# Altium schematic symbol library Molex_Library.SchLib: 6 symbols
Pins are listed as number, name and electrical type; pins without a type are passive.

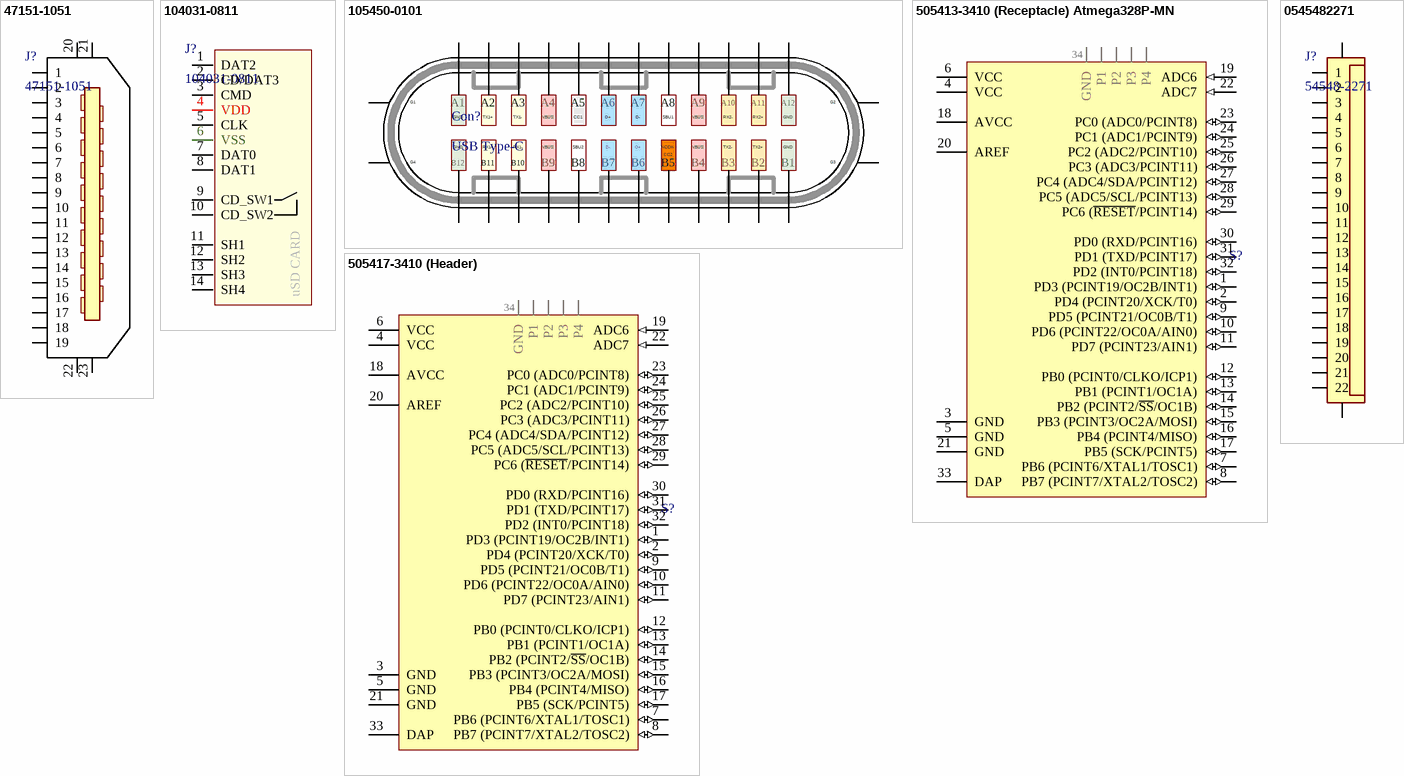
[diagram p0: symbols 47151-1051 to 0545482271]

## 47151-1051
designator J?
HDMI, Displayport & DVI Connectors 1.0 HDMI RIGHT ANGLE NGLE HEADER ASSEMBLY; Manufacturer: Molex; Body Material: Thermoplastic; Gender: Female; Voltage Rating (DC): 40V; Number of Positions: 19; Current Rating: 500mA; Supplier 1: Mouser; Manufacturer Part Number: 47151-1051; Stock 1: 773; Pricing 1: 1=1.48, 10=1.39, 50=1.27, 100=1.15, 1000=0.904, 10000=0.802 (USD); Contact Plating: Gold; Contact Material: Copper Alloy; Colour: Black; Package Quantity: 1050; Packaging: Tape and Reel; Termination: SMD/SMT; Orientation: Right Angle; Number of Rows: 2; Number of Circuits: 19; REACH SVHC: No SVHC; Halogen Free: Low Halogen; ComponentLink1URL: https://datasheet.ciiva.com/5053/0471511051-io-connectors-170027-5053366.pdf; ComponentLink1Description: https://datasheet.ciiva.com/5053/0471511051-io-connectors-170027-5053366.pdf
footprint Molex 471511051 HDMi (Molex 471511051)
pins: 1, 2, 3, 4, 5, 6, 7, 8, 9, 10, 11, 12, 13, 14, 15, 16, 17, 18, 19, 20, 21, 22, 23

## 104031-0811
designator J?
CONN MICRO SD CARD PUSH-PULL R/A; Manufacturer: Molex; Number of Contacts: 8; Current Rating: 500mA; Voltage Rating (AC): 10V; Mating Cycles: 10000; Connector Type: Connector; Gender: Female; Pitch: 1.1mm; Supplier 1: Mouser; Manufacturer Part Number: 104031-0811; Stock 1: 13417; Pricing 1: 1=1.75, 10=1.59, 50=1.59, 100=1.36, 1000=0.97, 10000=0.86 (USD); Mount: Surface Mount,Standard; Contact Material: Bronze; Contact Plating: Nickel,Gold; Housing Material: Polymer; Min Operating Temperature: -25°C; Max Operating Temperature: 85°C; Number of Rows: 1; Orientation: Right Angle; Packaging: Tape and Reel; Package Quantity: 1; Termination: Solder; Number of Circuits: 8; Length: 11.14mm; Height: 1.42mm; Width: 11.4mm; Depth: 11.4mm; Radiation Hardening: No; REACH SVHC: Unknown; Halogen Free: Low Halogen; ComponentLink1URL: https://datasheet.ciiva.com/4581/1040310811-memory-card-socket-153593-4581012.pdf; ComponentLink1Description: https://datasheet.ciiva.com/4581/1040310811-memory-card-socket-153593-4581012.pdf; ComponentLink2URL: https://datasheet.ciiva.com/683/1040310811-sd-683579.pdf; ComponentLink2Description: https://datasheet.ciiva.com/683/1040310811-sd-683579.pdf; ComponentLink3URL: https://datasheet.ciiva.com/16655/1040310811-memory-card-socket-16655292.pdf; ComponentLink3Description: https://datasheet.ciiva.com/16655/1040310811-memory-card-socket-16655292.pdf; ComponentLink4URL: https://datasheet.ciiva.com/15174/getdatasheetpartid-716154-15174887.pdf; ComponentLink4Description: https://datasheet.ciiva.com/15174/getdatasheetpartid-716154-15174887.pdf; ComponentLink5URL: https://datasheet.ciiva.com/683/1040310811-sd-683580.pdf; ComponentLink5Description: https://datasheet.ciiva.com/683/1040310811-sd-683580.pdf; ComponentLink6URL: https://datasheet.ciiva.com/683/1040310811-sd-683581.pdf; ComponentLink6Description: https://datasheet.ciiva.com/683/1040310811-sd-683581.pdf; ComponentLink7URL: https://datasheet.ciiva.com/3121/1040310811-memory-card-socket-3121437.pdf; ComponentLink7Description: https://datasheet.ciiva.com/3121/1040310811-memory-card-socket-3121437.pdf; ComponentLink8URL: https://datasheet.ciiva.com/16496/1040310811-memory-card-socket-16496702.pdf; ComponentLink8Description: https://datasheet.ciiva.com/16496/1040310811-memory-card-socket-16496702.pdf
footprint MOLEX 104031-0811 (Micro SD Card)
pins: 1 DAT2, 2 CD/DAT3, 3 CMD, 4 VDD, 5 CLK, 6 VSS, 7 DAT0, 8 DAT1, 9 CD_SW1, 10 CD_SW2, 11 SH1, 12 SH2, 13 SH3, 14 SH4
text: uSD CARD

## 105450-0101
designator Con?, comment USB Type-C
USB Connectors USB Type C Recep R/A TOPMNT GLD Flash; Manufacturer: Molex; Manufacturer Part Number: 105450-0101; Current Rating: 5 A; Gender: Female; Mounting Angle: Right Angle; Number of Contacts: 24 Contact; Voltage Rating: 30 V; Number of Ports: 1 Port; Product Status: New Technology; Supplier 1: Mouser; RoHS: RoHS Compliant; Category: USB Connectors; Stock 1: 15165; Pricing 1: 1=1.88, 10=1.70, 100=1.58, 1300=1.58 (USD); Contact Plating: Gold; Packaging: Cut Tape; Product: USB Type C Connectors; Series: 105450; Termination Style: SMD/SMT; Brand: Molex; Contact Material: Copper Alloy; Flammability Rating: UL 94 V-0; IP Rating: -; Standard: USB; Standard Pack Qty: 1300; Tradename: USB Type-C; RoHS - Mouser: Y; Minimum Order Quantity: 1; Reeling: True
footprint USB Type-C 105450-0101 (Receptacle) (105450-0101)
pins: A1, A2, A3, A4, A5, A6, A7, A8, A9, A10, A11, A12, B1, B2, B3, B4, B5, B6, B7, B8, B9, B10, B11, B12, G1, G2, G3, G4
text: GND; TX1+; TX1-; VBUS; CC1; D+; D-; SBU1; RX2-; RX2+; RX1+; RX1-; SBU2; VCON; TX2-; TX2+; CC2

## 505413-3410 (Receptacle) Atmega328P-MN
designator S?, comment Receptacle  (value not drawn)
Board to Board & Mezzanine Connectors 0.35 B/B Rec Assy 34Ckt EmbsTp Pkg; Manufacturer: Molex; Manufacturer Part Number: 505413-3410; Current Rating: 300 mA; Mounting Angle: Straight; Number of Positions: 34 Position; Voltage Rating: 50 V; Pitch: 0.35 mm; Product Status: New Product; Supplier 1: Mouser; RoHS: RoHS Compliant; Category: Board to Board & Mezzanine Connectors; Stock 1: 19995; Pricing 1: 1=1.11, 10=0.974, 25=0.918, 50=0.879, 100=0.840, 250=0.765, 500=0.688, 1000=0.612, 2500=0.572, 5000=0.572 (USD); Application: Board to Board; Contact Plating: Gold; Housing Material: Liquid Crystal Polymer (LCP); Number of Rows: 2 Row; Packaging: Cut Tape; Product: Receptacles; Series: 505413; Termination Style: SMD/SMT; Brand: Molex; Contact Material: Copper Alloy; Flammability Rating: UL 94 V-0; Mounting Style: SMD; Maximum Operating Temperature: + 85 C; Minimum Operating Temperature: - 40 C; Standard Pack Qty: 5000; Tradename: SlimStack Armor; RoHS - Mouser: Y; Minimum Order Quantity: 1; Reeling: True; ComponentLink1URL: https://www.mouser.com/ds/2/276/5054133410_PCB_RECEPTACLES-958638.pdf; ComponentLink1Description: https://www.mouser.com/ds/2/276/5054133410_PCB_RECEPTACLES-958638.pdf
footprint 505413-3410 (Receptacle)
pins: 1 PD3 (PCINT19/OC2B/INT1) (io), 2 PD4 (PCINT20/XCK/T0) (io), 3 GND (power), 4 VCC (power), 5 GND (power), 6 VCC (power), 7 PB6 (PCINT6/XTAL1/TOSC1) (io), 8 PB7 (PCINT7/XTAL2/TOSC2) (io), 9 PD5 (PCINT21/OC0B/T1) (io), 10 PD6 (PCINT22/OC0A/AIN0) (io), 11 PD7 (PCINT23/AIN1) (io), 12 PB0 (PCINT0/CLKO/ICP1) (io), 13 PB1 (PCINT1/OC1A) (io), 14 PB2 (PCINT2/~{SS}/OC1B) (io), 15 PB3 (PCINT3/OC2A/MOSI) (io), 16 PB4 (PCINT4/MISO) (io), 17 PB5 (SCK/PCINT5) (io), 18 AVCC (power), 19 ADC6 (in), 20 AREF, 21 GND (power), 22 ADC7 (in), 23 PC0 (ADC0/PCINT8) (io), 24 PC1 (ADC1/PCINT9) (io), 25 PC2 (ADC2/PCINT10) (io), 26 PC3 (ADC3/PCINT11) (io), 27 PC4 (ADC4/SDA/PCINT12) (io), 28 PC5 (ADC5/SCL/PCINT13) (io), 29 PC6 (~{RESET}/PCINT14) (io), 30 PD0 (RXD/PCINT16) (io), 31 PD1 (TXD/PCINT17) (io), 32 PD2 (INT0/PCINT18) (io), 33 DAP (power), 34 GND (power), P1 (power), P2 (power), P3 (power), P4 (power)

## 505417-3410 (Header)
designator S?, comment Plug (Header)  (value not drawn)
Board to Board & Mezzanine Connectors 0.35 B/B Rec Assy 34Ckt EmbsTp Pkg; Manufacturer: Molex; Manufacturer Part Number: 505417-3410; Current Rating: 300 mA; Mounting Angle: Straight; Number of Positions: 34 Position; Voltage Rating: 50 V; Pitch: 0.35 mm; Product Status: New Product; Supplier 1: Mouser; RoHS: RoHS Compliant; Category: Board to Board & Mezzanine Connectors; Stock 1: 19997; Pricing 1: 1=1.07, 10=0.940, 25=0.886, 50=0.848, 100=0.813, 250=0.739, 500=0.664, 1000=0.591, 2500=0.553, 5000=0.553 (USD); Application: Board to Board; Contact Plating: Gold; Housing Material: Liquid Crystal Polymer (LCP); Number of Rows: 2 Row; Packaging: Cut Tape; Product: Plugs; Series: 505417; Termination Style: SMD/SMT; Brand: Molex; Contact Material: Copper Alloy; Flammability Rating: UL 94 V-0; Mounting Style: SMD; Maximum Operating Temperature: + 85 C; Minimum Operating Temperature: - 40 C; Standard Pack Qty: 5000; Tradename: SlimStack Armor; RoHS - Mouser: Y; Minimum Order Quantity: 1; Reeling: True; ComponentLink1URL: https://www.mouser.com/ds/2/276/5054173410_PCB_HEADERS-958640.pdf; ComponentLink1Description: https://www.mouser.com/ds/2/276/5054173410_PCB_HEADERS-958640.pdf
footprint 505417-3410 (Header)
pins: 1 PD3 (PCINT19/OC2B/INT1) (io), 2 PD4 (PCINT20/XCK/T0) (io), 3 GND (power), 4 VCC (power), 5 GND (power), 6 VCC (power), 7 PB6 (PCINT6/XTAL1/TOSC1) (io), 8 PB7 (PCINT7/XTAL2/TOSC2) (io), 9 PD5 (PCINT21/OC0B/T1) (io), 10 PD6 (PCINT22/OC0A/AIN0) (io), 11 PD7 (PCINT23/AIN1) (io), 12 PB0 (PCINT0/CLKO/ICP1) (io), 13 PB1 (PCINT1/OC1A) (io), 14 PB2 (PCINT2/~{SS}/OC1B) (io), 15 PB3 (PCINT3/OC2A/MOSI) (io), 16 PB4 (PCINT4/MISO) (io), 17 PB5 (SCK/PCINT5) (io), 18 AVCC (power), 19 ADC6 (in), 20 AREF, 21 GND (power), 22 ADC7 (in), 23 PC0 (ADC0/PCINT8) (io), 24 PC1 (ADC1/PCINT9) (io), 25 PC2 (ADC2/PCINT10) (io), 26 PC3 (ADC3/PCINT11) (io), 27 PC4 (ADC4/SDA/PCINT12) (io), 28 PC5 (ADC5/SCL/PCINT13) (io), 29 PC6 (~{RESET}/PCINT14) (io), 30 PD0 (RXD/PCINT16) (io), 31 PD1 (TXD/PCINT17) (io), 32 PD2 (INT0/PCINT18) (io), 33 DAP (power), 34 GND (power), P1 (power), P2 (power), P3 (power), P4 (power)

## 0545482271
designator J?, comment 54548-2271
Conn FFC/FPC Connector SKT 22 POS 0.5mm Solder RA SMD Easy-On™ T/R; Manufacturer: Molex; Manufacturer Part Number: 0545482271; Actuator Material: Polyphenylene; Voltage Rating: 50V; Current Rating: 500mA; Number of Positions: 22; Contact Resistance: 40mR; Wire/Cable Type: Straight; Supplier 1: Mouser; Stock 1: 2798; Pricing 1: 1=2.25, 10=1.98, 50=1.98, 100=1.8, 1000=1.31, 10000=1.17 (USD); Mount: Surface Mount; Contact Material: Bronze; Contact Plating: Nickel,Gold; Housing Material: Polymer; Min Operating Temperature: -20°C; Max Operating Temperature: 85°C; Package Quantity: 1; Packaging: Tape and Reel; Number of Rows: 1; Termination: Solder; Orientation: Right Angle; Number of Contacts: 22; Length: 16.2mm; Pitch: 0.5mm; Depth: 5mm; Flammability Rating: UL94 V-0; ComponentLink1URL: https://datasheet.ciiva.com/3926/187910545482271-ffc-fpc-nectors-3926715.pdf; ComponentLink1Description: https://datasheet.ciiva.com/3926/187910545482271-ffc-fpc-nectors-3926715.pdf; ComponentLink2URL: https://datasheet.ciiva.com/3112/0545482271-ffc-fpc-connectors-3112285.pdf; ComponentLink2Description: https://datasheet.ciiva.com/3112/0545482271-ffc-fpc-connectors-3112285.pdf; ComponentLink3URL: https://datasheet.ciiva.com/6944/545482671-sd-6944776.pdf; ComponentLink3Description: https://datasheet.ciiva.com/6944/545482671-sd-6944776.pdf; ComponentLink4URL: https://datasheet.ciiva.com/6944/545482671-sd-6944780.pdf; ComponentLink4Description: https://datasheet.ciiva.com/6944/545482671-sd-6944780.pdf
footprint Molex 54548-2271
pins: 1, 2, 3, 4, 5, 6, 7, 8, 9, 10, 11, 12, 13, 14, 15, 16, 17, 18, 19, 20, 21, 22, G1, G2